# EAGLE library part LTC3705 (library PowerProducts)
2-Switch Forward Controller and Gate Driver
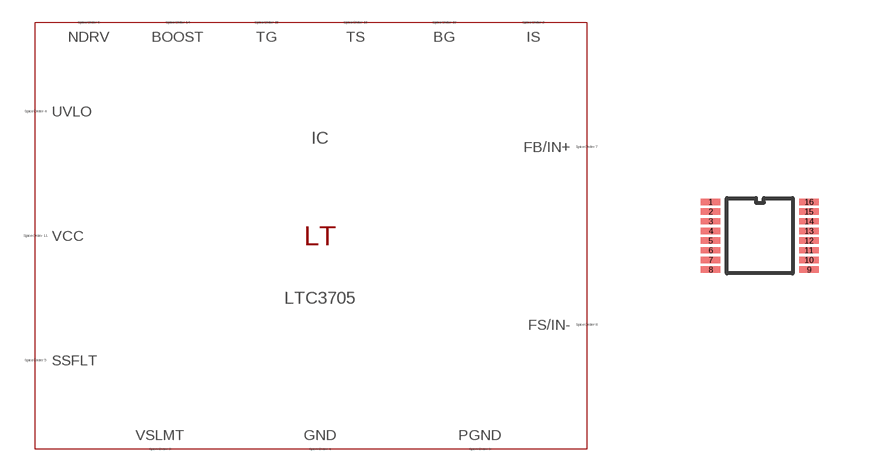
[diagram p284: symbol with the pads of SSOP16(GN); footprint SSOP16(GN)]

Designator prefix IC

## LTC3705 (SPICEMODEL: LTC3705.sub; SPICEPREFIX: X; VALUE2: LTC3705)  [SSOP16(GN)]
1  GND  pas
2  IS  pas
3  VSLMT  pas
4  UVLO  pas
5  SSFLT  pas
6  NDRV  pas
7  FB/IN+  pas
8  FS/IN-  pas
9  PGND  pas
10  BG  pas
11  VCC  pas
14  BOOST  pas
15  TG  pas
16  TS  pas

## Footprint SSOP16(GN) (pad centres in mm)
Package generated from: SSOP16(GN).asc (!PADS-POWERPCB-V5.0-BASIC! DESIGN DATABASE ASCII FILE 1.0) with :import-pads-powerpcb-v5.ulp Version 1.0.1 at 04.10.2012 14:11:37
smd 0.484 x 0.16: 1 -1.229,0.847; 2 -1.229,0.605; 3 -1.229,0.363; 4 -1.229,0.121; 5 -1.229,-0.121; 6 -1.229,-0.363; 7 -1.229,-0.605; 8 -1.229,-0.847; 9 1.229,-0.847; 10 1.229,-0.605; 11 1.229,-0.363; 12 1.229,-0.121; 13 1.229,0.121; 14 1.229,0.363; 15 1.229,0.605; 16 1.229,0.847